# EAGLE library part MX25L25635FMI (library Custom)
serial Flash memory
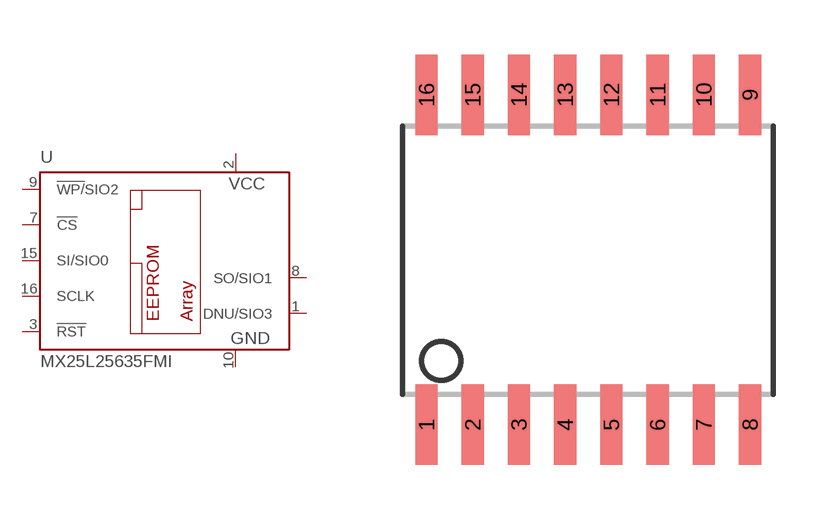
[diagram p61: symbol with the pads of SO16L; footprint SO16L]

Designator prefix U

## MX25L25635FMI-10G  [SO16L]
1  DNU/SIO3
2  VCC  pwr
3  !RST  in
7  !CS  in
8  SO/SIO1
9  !WP/!SIO2  in
10  GND  pwr
15  SI/SIO0  in
16  SCLK  in

## Footprint SO16L (pad centres in mm)
smd 0.61 x 2.21: 1 -4.445,-4.534; 2 -3.175,-4.534; 3 -1.905,-4.534; 4 -0.635,-4.534; 5 0.635,-4.534; 6 1.905,-4.534; 7 3.175,-4.534; 8 4.445,-4.534; 9 4.445,4.534; 10 3.175,4.534; 11 1.905,4.534; 12 0.635,4.534; 13 -0.635,4.534; 14 -1.905,4.534; 15 -3.175,4.534; 16 -4.445,4.534